# EAGLE library part MICRO_SD (library CougsInSpace)
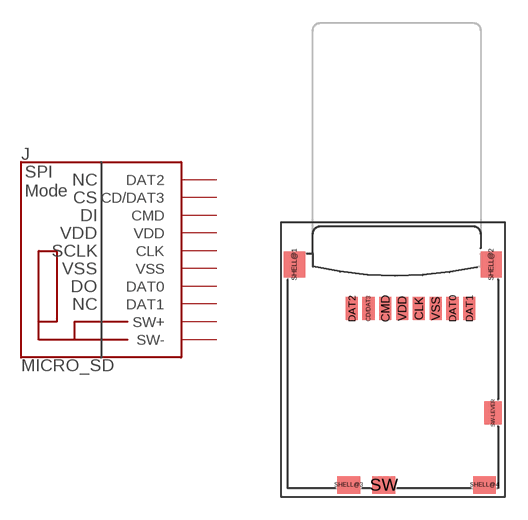
[diagram p28: symbol with the pads of MICRO_SD; footprint MICRO_SD]

Designator prefix J

## MICRO_SD  [MICRO_SD]
CD/DAT3  CD/DAT3
CLK  CLK  in
CMD  CMD
DAT0  DAT0
DAT1  DAT1
DAT2  DAT2
SW  SW+
SW-LEVER  SW-
VDD  VDD  pwr
VSS  VSS  pwr

## Footprint MICRO_SD (pad centres in mm)
smd 0.8 x 1.5: CD/DAT3 5.55,-3.75; CLK 8.85,-3.75; CMD 6.65,-3.75; DAT0 11.05,-3.75; DAT1 12.15,-3.75; DAT2 4.45,-3.75; VDD 7.75,-3.75; VSS 9.95,-3.75
smd 1.4 x 1.7: SHELL@1 0.7,-0.85; SHELL@2 13.6,-0.85
smd 1.5 x 1.15: SHELL@3 4.25,-15.325; SHELL@4 13.15,-15.325; SW 6.55,-15.325
smd 1.15 x 1.5: SW-LEVER 13.725,-10.6